# Altium schematic symbol library SCH - DIODES - TVS_UNI.SCHLIB: 2 symbols
Pins are listed as number, name and electrical type; pins without a type are passive.

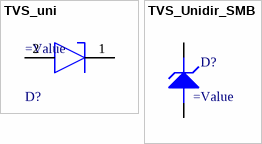
[diagram p0: symbols TVS_uni to TVS_Unidir_SMB]

## TVS_uni
designator D?
RoHS Compliant: Yes
pins: 1 C, 2 A

## TVS_Unidir_SMB
designator D?
TVS, Unidirectional, 600W
pins: 1 KATHODE, 2 ANODE